# Altium footprint library WE-PPTI.PcbLib: 13 footprints
Each footprint in its own frame and in the unit in brackets; x right, y up, seen from the top. Pads: shape width x height; smd on the part's side, far side on the other; paste and mask are expansions set on the pad; w line width, h text height; cw(c..) or ccw(c..) is an arc to the next point about the centre after c.
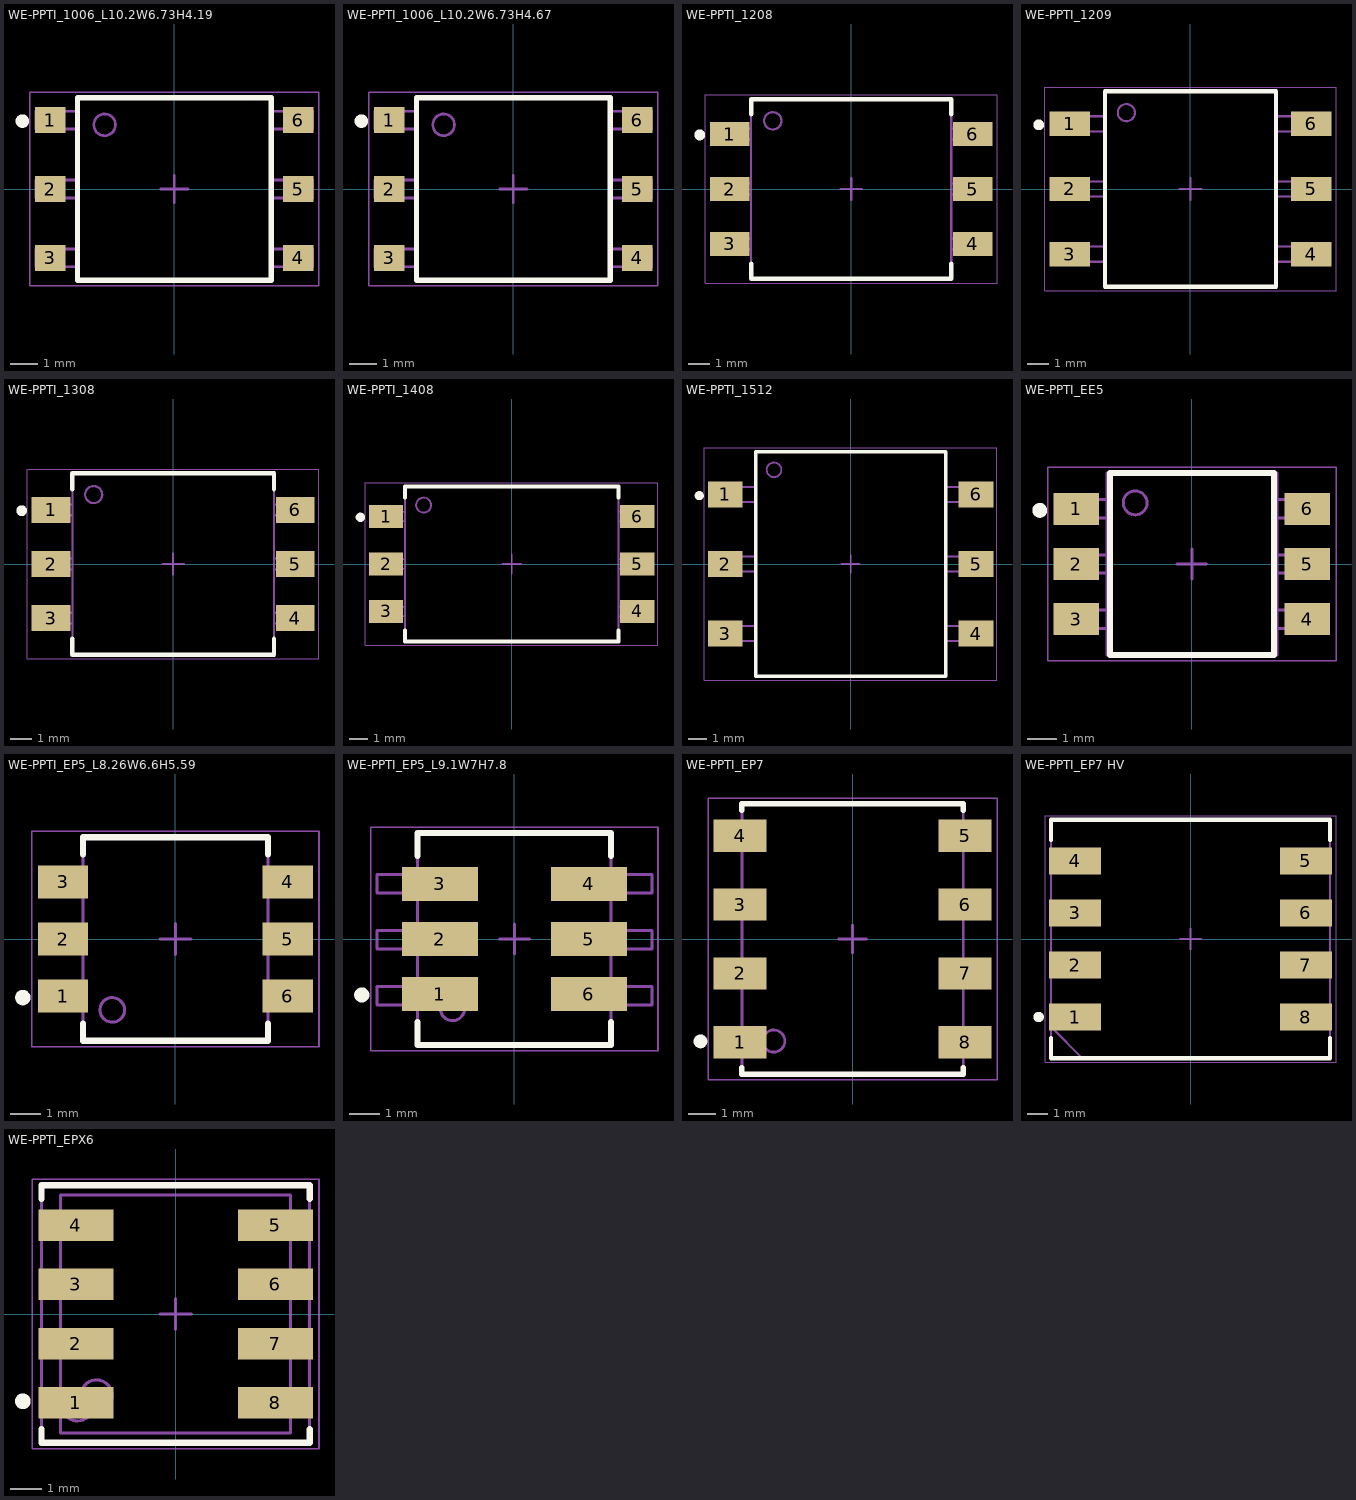
[diagram p0: the footprints below, top view; thin cyan lines are the x and y axes]

## WE-PPTI_1006_L10.2W6.73H4.19 [mm] "Push-Pull Transformer, SMT, body 7.14 x 6.73mm"
height 4.19
pads (6):
  rect 1.12x0.96 smd: 1(-4.57,2.54) 2(-4.57,0) 3(-4.57,-2.54) 4(4.57,-2.54) 5(4.57,0) 6(4.57,2.54)
Top Overlay:
  circle w0.25: c-5.6,2.5 r0.125
  lines w0.2: -3.57,-3.365 -3.57,3.365 3.57,3.365 3.57,-3.365 -3.57,-3.365
Top Assembly:
  circle w0.1: c-2.57,2.365 r0.4
  lines w0.1: -3.57,-2.87 -5.1,-2.87 -5.1,-2.21 -3.57,-2.21 ; -3.57,-0.33 -5.1,-0.33 -5.1,0.33 -3.57,0.33 ; -3.57,2.21 -5.1,2.21 -5.1,2.87 -3.57,2.87 ; 3.57,-2.87 5.1,-2.87 5.1,-2.21 3.57,-2.21 ; 3.57,-0.33 5.1,-0.33 5.1,0.33 3.57,0.33 ; 3.57,2.21 5.1,2.21 5.1,2.87 3.57,2.87 ; -3.57,-3.365 3.57,-3.365 3.57,3.365 -3.57,3.365 -3.57,-3.365
Top Designator:
  text ".Designator" at -3.647,-0.357 h1
Top 3D Body:
  circle w0.1: c-2.57,2.365 r0.4
  lines w0.1: -3.57,-2.87 -5.1,-2.87 -5.1,-2.21 -3.57,-2.21 ; -3.57,-0.33 -5.1,-0.33 -5.1,0.33 -3.57,0.33 ; -3.57,2.21 -5.1,2.21 -5.1,2.87 -3.57,2.87 ; 3.57,-2.87 5.1,-2.87 5.1,-2.21 3.57,-2.21 ; 3.57,-0.33 5.1,-0.33 5.1,0.33 3.57,0.33 ; 3.57,2.21 5.1,2.21 5.1,2.87 3.57,2.87 ; -3.57,-3.365 -3.57,3.365 3.57,3.365 3.57,-3.365 -3.57,-3.365
Top Courtyard:
  lines w0.05: -5.33,-3.565 5.33,-3.565 5.33,3.565 -5.33,3.565 -5.33,-3.565
Top Component Center:
  lines w0.1: -0.5,0 0.5,0 ; 0,-0.5 0,0.5
3D body "250-1109 (rev1).STEP": height 4.06, standoff 0, extent -4.98,-3.24 4.98,3.24

## WE-PPTI_1006_L10.2W6.73H4.67 [mm] "Push-Pull Transformer, SMT, body 7.14 x 6.73mm"
height 4.67
pads (6):
  rect 1.12x0.96 smd: 1(-4.57,2.54) 2(-4.57,0) 3(-4.57,-2.54) 4(4.57,-2.54) 5(4.57,0) 6(4.57,2.54)
Top Overlay:
  circle w0.25: c-5.6,2.5 r0.125
  lines w0.2: -3.57,-3.365 -3.57,3.365 3.57,3.365 3.57,-3.365 -3.57,-3.365
Top Assembly:
  circle w0.1: c-2.57,2.365 r0.4
  lines w0.1: -3.57,-2.87 -5.1,-2.87 -5.1,-2.21 -3.57,-2.21 ; -3.57,-0.33 -5.1,-0.33 -5.1,0.33 -3.57,0.33 ; -3.57,2.21 -5.1,2.21 -5.1,2.87 -3.57,2.87 ; 3.57,-2.87 5.1,-2.87 5.1,-2.21 3.57,-2.21 ; 3.57,-0.33 5.1,-0.33 5.1,0.33 3.57,0.33 ; 3.57,2.21 5.1,2.21 5.1,2.87 3.57,2.87 ; -3.57,-3.365 3.57,-3.365 3.57,3.365 -3.57,3.365 -3.57,-3.365
Top Designator:
  text ".Designator" at -3.647,-0.357 h1
Top 3D Body:
  circle w0.1: c-2.57,2.365 r0.4
  lines w0.1: -3.57,-2.87 -5.1,-2.87 -5.1,-2.21 -3.57,-2.21 ; -3.57,-0.33 -5.1,-0.33 -5.1,0.33 -3.57,0.33 ; -3.57,2.21 -5.1,2.21 -5.1,2.87 -3.57,2.87 ; 3.57,-2.87 5.1,-2.87 5.1,-2.21 3.57,-2.21 ; 3.57,-0.33 5.1,-0.33 5.1,0.33 3.57,0.33 ; 3.57,2.21 5.1,2.21 5.1,2.87 3.57,2.87 ; -3.57,-3.365 3.57,-3.365 3.57,3.365 -3.57,3.365 -3.57,-3.365
Top Courtyard:
  lines w0.05: -5.33,-3.565 5.33,-3.565 5.33,3.565 -5.33,3.565 -5.33,-3.565
Top Component Center:
  lines w0.1: -0.5,0 0.5,0 ; 0,-0.5 0,0.5
3D body "Download_STP_250-1410 (rev1).STEP": height 4.35, standoff 0, extent -4.98,-3.24 4.98,3.24

## WE-PPTI_1208 [mm] "Push-Pull Transformer, SMT, body 12.6 x 8.3 mm"
height 4.1
pads (6):
  rect 1.83x1.09 smd: 1(-5.62,2.54) 2(-5.62,0) 3(-5.62,-2.54) 4(5.62,-2.54) 5(5.62,0) 6(5.62,2.54)
Top Overlay:
  circle w0.25: c-7,2.5 r0.125
  lines w0.2: -4.625,-3.45 -4.625,-4.15 4.625,-4.15 4.625,-3.45 ; -4.625,3.45 -4.625,4.15 4.625,4.15 4.625,3.45
Top Assembly:
  circle w0.1: c-3.625,3.15 r0.4
  lines w0.1: -4.625,-2.795 -6.3,-2.795 -6.3,-2.285 -4.625,-2.285 ; -4.625,-0.255 -6.3,-0.255 -6.3,0.255 -4.625,0.255 ; -4.625,2.285 -6.3,2.285 -6.3,2.795 -4.625,2.795 ; 4.625,-2.795 6.3,-2.795 6.3,-2.285 4.625,-2.285 ; 4.625,-0.255 6.3,-0.255 6.3,0.255 4.625,0.255 ; 4.625,2.285 6.3,2.285 6.3,2.795 4.625,2.795 ; -4.625,-4.15 -4.625,4.15 4.625,4.15 4.625,-4.15 -4.625,-4.15
Top Designator:
  text ".Designator" at -3.647,-0.357 h1
Top 3D Body:
  circle w0.1: c-3.625,3.15 r0.4
  lines w0.1: -4.625,-2.795 -6.3,-2.795 -6.3,-2.285 -4.625,-2.285 ; -4.625,-0.255 -6.3,-0.255 -6.3,0.255 -4.625,0.255 ; -4.625,2.285 -6.3,2.285 -6.3,2.795 -4.625,2.795 ; 4.625,-2.795 6.3,-2.795 6.3,-2.285 4.625,-2.285 ; 4.625,-0.255 6.3,-0.255 6.3,0.255 4.625,0.255 ; 4.625,2.285 6.3,2.285 6.3,2.795 4.625,2.795 ; -4.625,-4.15 4.625,-4.15 4.625,4.15 -4.625,4.15 -4.625,-4.15
Top Courtyard:
  lines w0.05: -6.735,-4.35 -6.735,4.35 6.735,4.35 6.735,-4.35 -6.735,-4.35
Top Component Center:
  lines w0.1: -0.5,0 0.5,0 ; 0,-0.5 0,0.5
3D body "Download_STP_250-1201 (rev1).STEP": height 3.98, standoff 0.01, extent -6.035,-4.015 6.035,4.015

## WE-PPTI_1209 [mm] "Push-Pull Transformer, SMT, body 12.70 x 9.14 mm"
height 7.62
pads (6):
  rect 1.9x1.14 smd: 1(-5.655,3.05) 2(-5.655,0) 3(-5.655,-3.05) 4(5.655,-3.05) 5(5.655,0) 6(5.655,3.05)
Top Overlay:
  circle w0.25: c-7.1,3 r0.125
  lines w0.2: -4,-4.57 4,-4.57 4,4.57 -4,4.57 -4,-4.57
Top Assembly:
  circle w0.1: c-3,3.57 r0.4
  lines w0.1: -4,-3.405 -6.35,-3.405 -6.35,-2.695 -4,-2.695 ; -4,-0.355 -6.35,-0.355 -6.35,0.355 -4,0.355 ; -4,2.695 -6.35,2.695 -6.35,3.405 -4,3.405 ; 4,-3.405 6.35,-3.405 6.35,-2.695 4,-2.695 ; 4,-0.355 6.35,-0.355 6.35,0.355 4,0.355 ; 4,2.695 6.35,2.695 6.35,3.405 4,3.405 ; -4,-4.57 -4,4.57 4,4.57 4,-4.57 -4,-4.57
Top Designator:
  text ".Designator" at -3.647,-0.357 h1
Top 3D Body:
  circle w0.1: c-3,3.57 r0.4
  lines w0.1: -4,-3.405 -6.35,-3.405 -6.35,-2.695 -4,-2.695 ; -4,-0.355 -6.35,-0.355 -6.35,0.355 -4,0.355 ; -4,2.695 -6.35,2.695 -6.35,3.405 -4,3.405 ; 4,-3.405 6.35,-3.405 6.35,-2.695 4,-2.695 ; 4,-0.355 6.35,-0.355 6.35,0.355 4,0.355 ; 4,2.695 6.35,2.695 6.35,3.405 4,3.405 ; -4,-4.57 4,-4.57 4,4.57 -4,4.57 -4,-4.57
Top Courtyard:
  lines w0.05: -6.805,-4.77 -6.805,4.77 6.805,4.77 6.805,-4.77 -6.805,-4.77
Top Component Center:
  lines w0.1: -0.5,0 0.5,0 ; 0,-0.5 0,0.5
3D body "250-1123 (rev1).STEP": height 7.34, standoff 0.03, extent -6,-4.445 6,4.445

## WE-PPTI_1308 [mm] "Push-Pull Transformer, SMT, body 13.12 x 8.5 mm"
height 5.5
pads (6):
  rect 1.82x1.22 smd: 1(-5.725,2.54) 2(-5.725,0) 3(-5.725,-2.54) 4(5.725,-2.54) 5(5.725,0) 6(5.725,2.54)
Top Overlay:
  circle w0.25: c-7.1,2.5 r0.125
  lines w0.2: -4.725,-3.5 -4.725,-4.25 4.725,-4.25 4.725,-3.5 ; -4.725,3.5 -4.725,4.25 4.725,4.25 4.725,3.5
Top Assembly:
  circle w0.1: c-3.725,3.25 r0.4
  lines w0.1: -4.725,-2.795 -6.13,-2.795 -6.13,-2.285 -4.725,-2.285 ; -4.725,-0.255 -6.13,-0.255 -6.13,0.255 -4.725,0.255 ; -4.725,2.285 -6.13,2.285 -6.13,2.795 -4.725,2.795 ; 4.725,-2.795 6.13,-2.795 6.13,-2.285 4.725,-2.285 ; 4.725,-0.255 6.13,-0.255 6.13,0.255 4.725,0.255 ; 4.725,2.285 6.13,2.285 6.13,2.795 4.725,2.795 ; -4.725,-4.25 4.725,-4.25 4.725,4.25 -4.725,4.25 -4.725,-4.25
Top Designator:
  text ".Designator" at -3.647,-0.357 h1
Top 3D Body:
  circle w0.1: c-3.725,3.25 r0.4
  lines w0.1: -4.725,-2.795 -6.13,-2.795 -6.13,-2.285 -4.725,-2.285 ; -4.725,-0.255 -6.13,-0.255 -6.13,0.255 -4.725,0.255 ; -4.725,2.285 -6.13,2.285 -6.13,2.795 -4.725,2.795 ; 4.725,-2.795 6.13,-2.795 6.13,-2.285 4.725,-2.285 ; 4.725,-0.255 6.13,-0.255 6.13,0.255 4.725,0.255 ; 4.725,2.285 6.13,2.285 6.13,2.795 4.725,2.795 ; -4.725,-4.25 -4.725,4.25 4.725,4.25 4.725,-4.25 -4.725,-4.25
Top Courtyard:
  lines w0.05: -6.835,-4.45 -6.835,4.45 6.835,4.45 6.835,-4.45 -6.835,-4.45
Top Component Center:
  lines w0.1: -0.5,0 0.5,0 ; 0,-0.5 0,0.5
3D body "7503196xx.stp": height 5.08, standoff 0, extent -6.13,-4.115 6.13,4.115

## WE-PPTI_1408 [mm] "Push-Pull Transformer, SMT, body 14.75 x 8.3 mm"
height 4.2
pads (6):
  rect 1.82x1.22 smd: 1(-6.715,2.54) 2(-6.715,0) 3(-6.715,-2.54) 4(6.715,-2.54) 5(6.715,0) 6(6.715,2.54)
Top Overlay:
  circle w0.25: c-8.1,2.5 r0.125
  lines w0.2: -5.715,-3.55 -5.715,-4.15 5.715,-4.15 5.715,-3.55 ; -5.715,3.55 -5.715,4.15 5.715,4.15 5.715,3.55
Top Assembly:
  circle w0.1: c-4.715,3.15 r0.4
  lines w0.1: -5.715,-2.795 -7.375,-2.795 -7.375,-2.285 -5.715,-2.285 ; -5.715,-0.255 -7.375,-0.255 -7.375,0.255 -5.715,0.255 ; -5.715,2.285 -7.375,2.285 -7.375,2.795 -5.715,2.795 ; 5.715,-2.795 7.375,-2.795 7.375,-2.285 5.715,-2.285 ; 5.715,-0.255 7.375,-0.255 7.375,0.255 5.715,0.255 ; 5.715,2.285 7.375,2.285 7.375,2.795 5.715,2.795 ; -5.715,-4.15 -5.715,4.15 5.715,4.15 5.715,-4.15 -5.715,-4.15
Top Designator:
  text ".Designator" at -3.647,-0.357 h1
Top 3D Body:
  circle w0.1: c-4.715,3.15 r0.4
  lines w0.1: -5.715,-2.795 -7.375,-2.795 -7.375,-2.285 -5.715,-2.285 ; -5.715,-0.255 -7.375,-0.255 -7.375,0.255 -5.715,0.255 ; -5.715,2.285 -7.375,2.285 -7.375,2.795 -5.715,2.795 ; 5.715,-2.795 7.375,-2.795 7.375,-2.285 5.715,-2.285 ; 5.715,-0.255 7.375,-0.255 7.375,0.255 5.715,0.255 ; 5.715,2.285 7.375,2.285 7.375,2.795 5.715,2.795 ; -5.715,-4.15 5.715,-4.15 5.715,4.15 -5.715,4.15 -5.715,-4.15
Top Courtyard:
  lines w0.05: -7.825,-4.35 -7.825,4.35 7.825,4.35 7.825,-4.35 -7.825,-4.35
Top Component Center:
  lines w0.1: -0.5,0 0.5,0 ; 0,-0.5 0,0.5
3D body "Download_STP_250-1268 (rev1).STEP": height 4.09, standoff 0, extent -7.125,-4.015 7.125,4.015

## WE-PPTI_1512 [mm] "Push-Pull Transformer, SMT, body 15.41 x 12.32 mm"
height 11.89
pads (6):
  rect 1.9x1.4 smd: 1(-6.87,3.81) 2(-6.87,0) 3(-6.87,-3.81) 4(6.87,-3.81) 5(6.87,0) 6(6.87,3.81)
Top Overlay:
  circle w0.25: c-8.3,3.75 r0.125
  lines w0.2: -5.205,-6.16 5.205,-6.16 5.205,6.16 -5.205,6.16 -5.205,-6.16
Top Assembly:
  circle w0.1: c-4.205,5.16 r0.4
  lines w0.1: -5.205,-4.215 -7.705,-4.215 -7.705,-3.405 -5.205,-3.405 ; -5.205,-0.405 -7.705,-0.405 -7.705,0.405 -5.205,0.405 ; -5.205,3.405 -7.705,3.405 -7.705,4.215 -5.205,4.215 ; 5.205,-4.215 7.705,-4.215 7.705,-3.405 5.205,-3.405 ; 5.205,-0.405 7.705,-0.405 7.705,0.405 5.205,0.405 ; 5.205,3.405 7.705,3.405 7.705,4.215 5.205,4.215 ; -5.205,-6.16 -5.205,6.16 5.205,6.16 5.205,-6.16 -5.205,-6.16
Top Designator:
  text ".Designator" at -3.647,-0.357 h1
Top 3D Body:
  circle w0.1: c-4.205,5.16 r0.4
  lines w0.1: -5.205,-4.215 -7.705,-4.215 -7.705,-3.405 -5.205,-3.405 ; -5.205,-0.405 -7.705,-0.405 -7.705,0.405 -5.205,0.405 ; -5.205,3.405 -7.705,3.405 -7.705,4.215 -5.205,4.215 ; 5.205,-4.215 7.705,-4.215 7.705,-3.405 5.205,-3.405 ; 5.205,-0.405 7.705,-0.405 7.705,0.405 5.205,0.405 ; 5.205,3.405 7.705,3.405 7.705,4.215 5.205,4.215 ; -5.205,-6.16 -5.205,6.16 5.205,6.16 5.205,-6.16 -5.205,-6.16
Top Courtyard:
  lines w0.05: -8.02,-6.36 -8.02,6.36 8.02,6.36 8.02,-6.36 -8.02,-6.36
Top Component Center:
  lines w0.1: -0.5,0 0.5,0 ; 0,-0.5 0,0.5
3D body "Download_STP_250-1243 (rev1).STEP": height 11.54, standoff 0.01, extent -7.235,-6.095 7.235,6.095

## WE-PPTI_EE5 [mm] "Push-Pull Transformer, SMT, body 8.76 x 6.1 mm"
height 6.35
pads (6):
  rect 1.52x1.07 smd: 1(-3.875,1.85) 2(-3.875,0) 3(-3.875,-1.85) 4(3.875,-1.85) 5(3.875,0) 6(3.875,1.85)
Top Overlay:
  circle w0.25: c-5.1,1.8 r0.125
  lines w0.2: -2.75,-3.05 -2.75,3.05 2.75,3.05 2.75,-3.05 -2.75,-3.05
Top Assembly:
  circle w0.1: c-1.9,2.05 r0.4
  lines w0.1: -2.85,-2.155 -4.38,-2.155 -4.38,-1.545 -2.85,-1.545 ; -2.85,-0.305 -4.38,-0.305 -4.38,0.305 -2.85,0.305 ; -2.85,1.545 -4.38,1.545 -4.38,2.155 -2.85,2.155 ; 2.85,-2.155 4.38,-2.155 4.38,-1.545 2.85,-1.545 ; 2.85,-0.305 4.38,-0.305 4.38,0.305 2.85,0.305 ; 2.85,1.545 4.38,1.545 4.38,2.155 2.85,2.155 ; -2.85,-3.05 -2.85,3.05 2.85,3.05 2.85,-3.05 -2.85,-3.05
Top Designator:
  text ".Designator" at -3.647,-0.357 h1
Top 3D Body:
  circle w0.1: c-1.9,2.05 r0.4
  lines w0.1: -2.85,-2.155 -4.38,-2.155 -4.38,-1.545 -2.85,-1.545 ; -2.85,-0.305 -4.38,-0.305 -4.38,0.305 -2.85,0.305 ; -2.85,1.545 -4.38,1.545 -4.38,2.155 -2.85,2.155 ; 2.85,-2.155 4.38,-2.155 4.38,-1.545 2.85,-1.545 ; 2.85,-0.305 4.38,-0.305 4.38,0.305 2.85,0.305 ; 2.85,1.545 4.38,1.545 4.38,2.155 2.85,2.155 ; -2.85,-3.05 2.85,-3.05 2.85,3.05 -2.85,3.05 -2.85,-3.05
Top Courtyard:
  lines w0.05: -4.835,-3.25 -4.835,3.25 4.835,3.25 4.835,-3.25 -4.835,-3.25
Top Component Center:
  lines w0.1: -0.5,0 0.5,0 ; 0,-0.5 0,0.5
3D body "Download_STP_070-4215_0166 (rev1).STEP": height 5.55, standoff -0.02, extent -4.13,-2.925 4.13,2.925

## WE-PPTI_EP5_L8.26W6.6H5.59 [mm] "Push-Pull Transformer, SMT, body 8.26 x 6.6 mm"
height 5.59
pads (6):
  rect 1.63x1.07 smd: 1(-3.645,-1.85) 2(-3.645,0) 3(-3.645,1.85) 4(3.645,1.85) 5(3.645,0) 6(3.645,-1.85)
Top Overlay:
  circle w0.25: c-4.95,-1.9 r0.125
  lines w0.2: -3,-2.75 -3,-3.3 3,-3.3 3,-2.75 ; -3,2.75 -3,3.3 3,3.3 3,2.75
Top Assembly:
  circle w0.1: c-2.05,-2.3 r0.4
  lines w0.1: -3,-2.15 -4.13,-2.15 -4.13,-1.55 -3,-1.55 ; -3,-0.3 -4.13,-0.3 -4.13,0.3 -3,0.3 ; -3,1.55 -4.13,1.55 -4.13,2.15 -3,2.15 ; 3,-2.15 4.13,-2.15 4.13,-1.55 3,-1.55 ; 3,-0.3 4.13,-0.3 4.13,0.3 3,0.3 ; 3,1.55 4.13,1.55 4.13,2.15 3,2.15 ; -3,-3.3 -3,3.3 3,3.3 3,-3.3 -3,-3.3
Top Designator:
  text ".Designator" at -3.647,-0.357 h1
Top 3D Body:
  circle w0.1: c-2.05,-2.3 r0.4
  lines w0.1: -3,-2.15 -4.13,-2.15 -4.13,-1.55 -3,-1.55 ; -3,-0.3 -4.13,-0.3 -4.13,0.3 -3,0.3 ; -3,1.55 -4.13,1.55 -4.13,2.15 -3,2.15 ; 3,-2.15 4.13,-2.15 4.13,-1.55 3,-1.55 ; 3,-0.3 4.13,-0.3 4.13,0.3 3,0.3 ; 3,1.55 4.13,1.55 4.13,2.15 3,2.15 ; -3,-3.3 -3,3.3 3,3.3 3,-3.3 -3,-3.3
Top Courtyard:
  lines w0.05: -4.66,-3.5 -4.66,3.5 4.66,3.5 4.66,-3.5 -4.66,-3.5
Top Component Center:
  lines w0.1: -0.5,0 0.5,0 ; 0,-0.5 0,0.5
3D body "070-4426 (rev1).STEP": height 5.15, standoff 0, extent -3.85,-3.235 3.85,3.235

## WE-PPTI_EP5_L9.1W7H7.8 [mm] "Push-Pull Transformer, SMT, body 9.1 x 7 mm"
height 7.8
pads (6):
  rect 2.52x1.12 smd: 1(-2.465,-1.825) 2(-2.465,0) 3(-2.465,1.825) 4(2.465,1.825) 5(2.465,0) 6(2.465,-1.825)
Top Overlay:
  circle w0.25: c-5.05,-1.85 r0.125
  lines w0.2: -3.2,-2.75 -3.2,-3.5 3.2,-3.5 3.2,-2.75 ; -3.2,2.75 -3.2,3.5 3.2,3.5 3.2,2.75
Top Assembly:
  circle w0.1: c-2.05,-2.3 r0.4
  lines w0.1: -3.2,-2.18 -4.55,-2.18 -4.55,-1.57 -3.2,-1.57 ; -3.2,-0.33 -4.55,-0.33 -4.55,0.28 -3.2,0.28 ; -3.2,1.52 -4.55,1.52 -4.55,2.13 -3.2,2.13 ; 3.2,-2.18 4.55,-2.18 4.55,-1.57 3.2,-1.57 ; 3.2,-0.33 4.55,-0.33 4.55,0.28 3.2,0.28 ; 3.2,1.52 4.55,1.52 4.55,2.13 3.2,2.13 ; -3.2,-3.5 3.2,-3.5 3.2,3.5 -3.2,3.5 -3.2,-3.5
Top Designator:
  text ".Designator" at -3.647,-0.357 h1
Top 3D Body:
  circle w0.1: c-2.05,-2.3 r0.4
  lines w0.1: -3.2,-2.18 -4.55,-2.18 -4.55,-1.57 -3.2,-1.57 ; -3.2,-0.33 -4.55,-0.33 -4.55,0.28 -3.2,0.28 ; -3.2,1.52 -4.55,1.52 -4.55,2.13 -3.2,2.13 ; 3.2,-2.18 4.55,-2.18 4.55,-1.57 3.2,-1.57 ; 3.2,-0.33 4.55,-0.33 4.55,0.28 3.2,0.28 ; 3.2,1.52 4.55,1.52 4.55,2.13 3.2,2.13 ; -3.2,-3.5 -3.2,3.5 3.2,3.5 3.2,-3.5 -3.2,-3.5
Top Courtyard:
  lines w0.05: -4.75,-3.7 -4.75,3.7 4.75,3.7 4.75,-3.7 -4.75,-3.7
Top Component Center:
  lines w0.1: -0.5,0 0.5,0 ; 0,-0.5 0,0.5
3D body "Download_STEP_070-6279 (rev1).STEP": height 7.63, standoff 0.02, extent -4.205,-3.231 4.195,3.239

## WE-PPTI_EP7 [mm] "Push-Pull Transformer, SMT, body 9.14 x 9.78 mm"
height 10.54
pads (8):
  rect 1.91x1.17 smd: 1(-4.065,-3.735) 2(-4.065,-1.245) 3(-4.065,1.245) 4(-4.065,3.735) 5(4.065,3.735) 6(4.065,1.245) 7(4.065,-1.245) 8(4.065,-3.735)
Top Overlay:
  circle w0.25: c-5.5,-3.7 r0.125
  lines w0.2: -4,-4.65 -4,-4.89 4,-4.89 4,-4.65 ; -4,4.65 -4,4.89 4,4.89 4,4.65
Top Assembly:
  circle w0.1: c-2.85,-3.69 r0.4
  lines w0.1: -4,-4.085 -4.57,-4.085 -4.57,-3.385 -4,-3.385 ; -4,-1.595 -4.57,-1.595 -4.57,-0.895 -4,-0.895 ; -4,0.895 -4.57,0.895 -4.57,1.595 -4,1.595 ; -4,3.385 -4.57,3.385 -4.57,4.085 -4,4.085 ; 4,-4.085 4.57,-4.085 4.57,-3.385 4,-3.385 ; 4,-1.595 4.57,-1.595 4.57,-0.895 4,-0.895 ; 4,0.895 4.57,0.895 4.57,1.595 4,1.595 ; 4,3.385 4.57,3.385 4.57,4.085 4,4.085 ; -4,-4.89 4,-4.89 4,4.89 -4,4.89 -4,-4.89
Top Designator:
  text ".Designator" at -3.647,-0.357 h1
Top 3D Body:
  circle w0.1: c-2.85,-3.69 r0.4
  lines w0.1: -4,-4.085 -4.57,-4.085 -4.57,-3.385 -4,-3.385 ; -4,-1.595 -4.57,-1.595 -4.57,-0.895 -4,-0.895 ; -4,0.895 -4.57,0.895 -4.57,1.595 -4,1.595 ; -4,3.385 -4.57,3.385 -4.57,4.085 -4,4.085 ; 4,-4.085 4.57,-4.085 4.57,-3.385 4,-3.385 ; 4,-1.595 4.57,-1.595 4.57,-0.895 4,-0.895 ; 4,0.895 4.57,0.895 4.57,1.595 4,1.595 ; 4,3.385 4.57,3.385 4.57,4.085 4,4.085 ; -4,-4.89 4,-4.89 4,4.89 -4,4.89 -4,-4.89
Top Courtyard:
  lines w0.05: -5.22,-5.09 -5.22,5.09 5.22,5.09 5.22,-5.09 -5.22,-5.09
Top Component Center:
  lines w0.1: -0.5,0 0.5,0 ; 0,-0.5 0,0.5
3D body "070-4436 (rev1).STEP": height 10.09, standoff 0, extent -4.4,-4.89 4.4,4.89

## WE-PPTI_EP7 HV [mm] "Push-Pull Transformer, SMT, body 11.46 x 13.4 mm"
height 11.91
pads (8):
  rect 2.5x1.29 smd: 1(-5.54,-3.75) 2(-5.54,-1.25) 3(-5.54,1.25) 4(-5.54,3.75) 5(5.54,3.75) 6(5.54,1.25) 7(5.54,-1.25) 8(5.54,-3.75)
Top Overlay:
  circle w0.25: c-7.3,-3.75 r0.125
  lines w0.2: -6.7,-4.75 -6.7,-5.73 6.7,-5.73 6.7,-4.75 ; -6.7,4.75 -6.7,5.73 6.7,5.73 6.7,4.75
Top Assembly:
  lines w0.1: -6.7,-4.23 -5.2,-5.73 ; -6.7,-5.73 -6.7,5.73 6.7,5.73 6.7,-5.73 -6.7,-5.73
Top Designator:
  text ".Designator" at -3.647,-0.357 h1
Top 3D Body:
  lines w0.1: -6.7,-4.23 -5.2,-5.73 ; -6.7,-5.73 -6.7,5.73 6.7,5.73 6.7,-5.73 -6.7,-5.73
Top Courtyard:
  lines w0.05: -6.99,-5.93 -6.99,5.93 6.99,5.93 6.99,-5.93 -6.99,-5.93
Top Component Center:
  lines w0.1: -0.5,0 0.5,0 ; 0,-0.5 0,0.5
3D body "WE-PPTI-EP7HV.STEP": height 11.47, standoff 0.01, extent -6.25,-5.55 6.25,5.55

## WE-PPTI_EPX6 [mm] "Push-Pull Transformer, SMT, body 8.60x8.26 mm"
height 9.65
pads (8):
  rect 2.4x1.01 smd: 1(-3.2,-2.85) 2(-3.2,-0.95) 3(-3.2,0.95) 4(-3.2,2.85) 5(3.2,2.85) 6(3.2,0.95) 7(3.2,-0.95) 8(3.2,-2.85)
Top Overlay:
  circle w0.25: c-4.9,-2.8 r0.125
  lines w0.2: -4.3,-3.7 -4.3,-4.13 4.3,-4.13 4.3,-3.7 ; -4.3,3.7 -4.3,4.13 4.3,4.13 4.3,3.7
Top Assembly:
  circle w0.1: c-3.15,-2.93 r0.5
  lines w0.1: -4.3,-4.13 4.3,-4.13 4.3,4.13 -4.3,4.13 -4.3,-4.13
Top Designator:
  text ".Designator" at -3.647,-0.357 h1
Top 3D Body:
  circle w0.1: c-2.54,-2.615 r0.5
  lines w0.1: -3.69,-3.815 3.69,-3.815 3.69,3.815 -3.69,3.815 -3.69,-3.815
Top Courtyard:
  lines w0.05: -4.6,-4.33 -4.6,4.33 4.6,4.33 4.6,-4.33 -4.6,-4.33
Top Component Center:
  lines w0.1: -0.5,0 0.5,0 ; 0,-0.5 0,0.5
3D body "EPX6_5946.STEP": height 8.69, standoff 0, extent -3.851,-3.818 3.849,3.812